# EAGLE library part XMC4100_4200_LQFP-64 (library infineon_xmc)
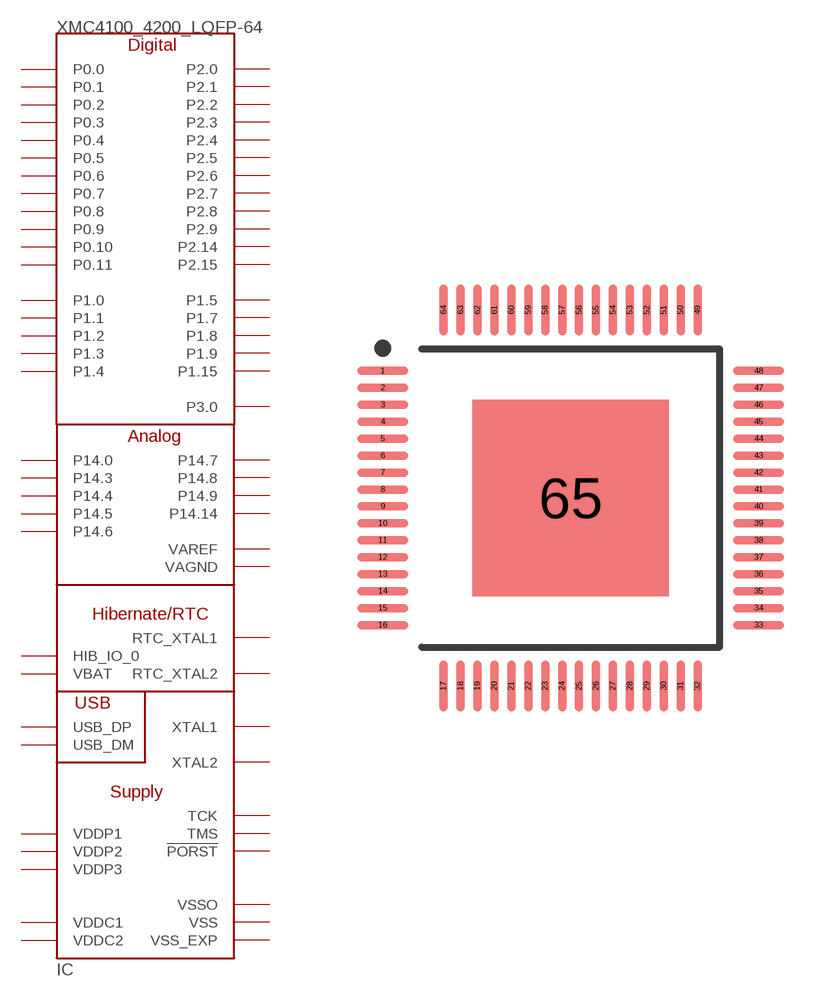
[diagram p0: symbol with the pads of INF-PG-LQFP-64-19-5800X5800T57PRIMARY; footprint INF-PG-LQFP-64-19-5800X5800T57PRIMARY]

Designator prefix IC

## XMC4100_4200_LQFP-64  [INF-PG-LQFP-64-19-5800X5800T57PRIMARY]
1  P0.1
2  P0.0
3  P0.10
4  P0.9
5  P3.0
6  USB_DM
7  USB_DP
8  VDDP1
9  VDDC1
10  HIB_IO_0
11  RTC_XTAL1
12  RTC_XTAL2
13  VBAT
14  P14.14
15  P14.7
16  P14.6
17  P14.5
18  P14.4
19  P14.3
20  P14.0
21  VAGND
22  VAREF
23  P14.9
24  P14.8
25  P2.15
26  P2.14
27  P2.9
28  P2.8
29  P2.5
30  P2.4
31  P2.3
32  P2.2
33  P2.1
34  P2.0
35  P2.7
36  P2.6
37  VSS
38  VDDP2
39  XTAL1
40  XTAL2
41  VSSO
42  VDDC2
43  !PORST
44  TMS
45  TCK
46  P1.15
47  P1.5
48  P1.4
49  P1.3
50  P1.2
51  P1.1
52  P1.0
53  P1.9
54  P1.8
55  P1.7
56  VDDP3
57  P0.8
58  P0.7
59  P0.11
60  P0.6
61  P0.5
62  P0.4
63  P0.3
64  P0.2
65  VSS_EXP

## Footprint INF-PG-LQFP-64-19-5800X5800T57PRIMARY (pad centres in mm)
Original name INF-PG-LQFP-64-19-5800X5800T29
smd 1.5 x 0.25: 1 -5.55,3.75; 2 -5.55,3.25; 3 -5.55,2.75; 4 -5.55,2.25; 5 -5.55,1.75; 6 -5.55,1.25; 7 -5.55,0.75; 8 -5.55,0.25; 9 -5.55,-0.25; 10 -5.55,-0.75; 11 -5.55,-1.25; 12 -5.55,-1.75; 13 -5.55,-2.25; 14 -5.55,-2.75; 15 -5.55,-3.25; 16 -5.55,-3.75; 33 5.55,-3.75; 34 5.55,-3.25; 35 5.55,-2.75; 36 5.55,-2.25; 37 5.55,-1.75; 38 5.55,-1.25; 39 5.55,-0.75; 40 5.55,-0.25; 41 5.55,0.25; 42 5.55,0.75; 43 5.55,1.25; 44 5.55,1.75; 45 5.55,2.25; 46 5.55,2.75; 47 5.55,3.25; 48 5.55,3.75
smd 0.25 x 1.5: 17 -3.75,-5.55; 18 -3.25,-5.55; 19 -2.75,-5.55; 20 -2.25,-5.55; 21 -1.75,-5.55; 22 -1.25,-5.55; 23 -0.75,-5.55; 24 -0.25,-5.55; 25 0.25,-5.55; 26 0.75,-5.55; 27 1.25,-5.55; 28 1.75,-5.55; 29 2.25,-5.55; 30 2.75,-5.55; 31 3.25,-5.55; 32 3.75,-5.55; 49 3.75,5.55; 50 3.25,5.55; 51 2.75,5.55; 52 2.25,5.55; 53 1.75,5.55; 54 1.25,5.55; 55 0.75,5.55; 56 0.25,5.55; 57 -0.25,5.55; 58 -0.75,5.55; 59 -1.25,5.55; 60 -1.75,5.55; 61 -2.25,5.55; 62 -2.75,5.55; 63 -3.25,5.55; 64 -3.75,5.55
smd 5.8 x 5.8: 65 0,0